# Altium footprint library Discrete.PcbLib: 34 footprints (part 1 of 3)
Each footprint in its own frame and in the unit in brackets; x right, y up, seen from the top. Pads: shape width x height; smd on the part's side, far side on the other; paste and mask are expansions set on the pad; w line width, h text height; cw(c..) or ccw(c..) is an arc to the next point about the centre after c.
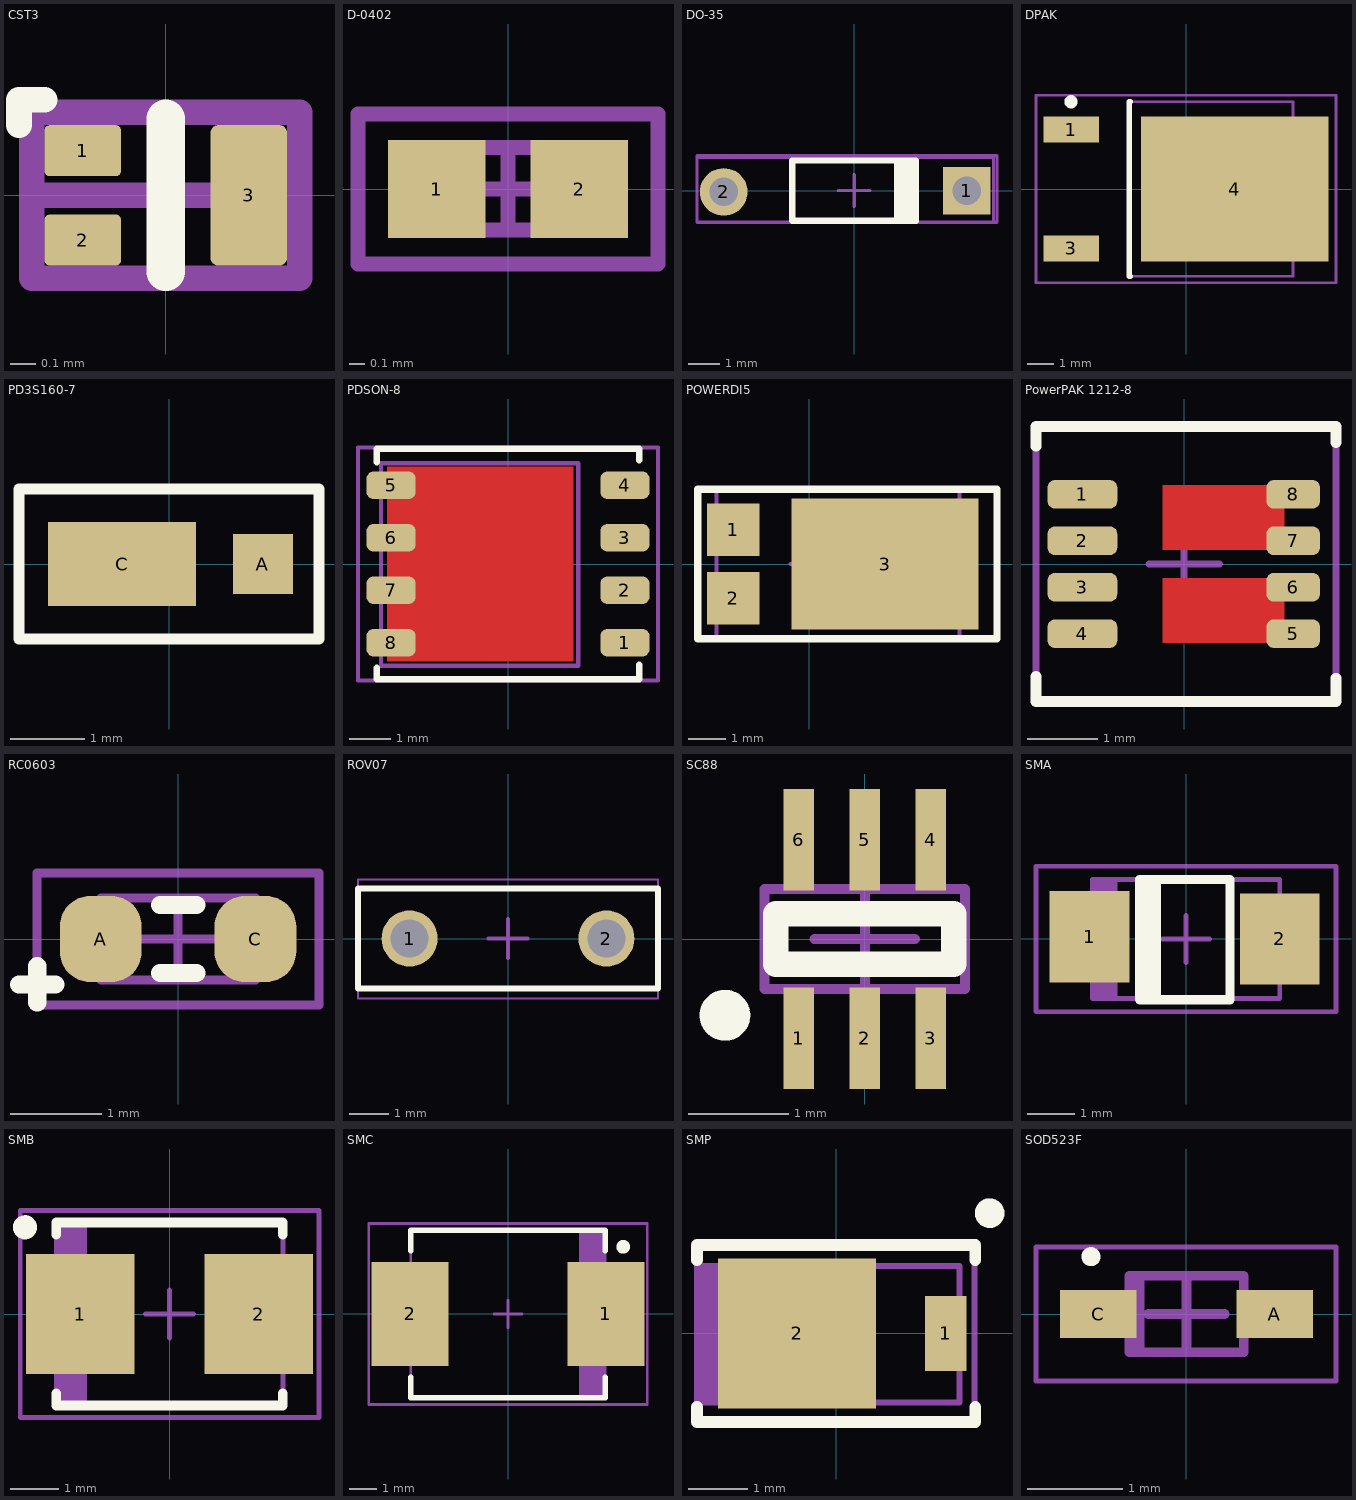
[diagram p0: the footprints below, top view; thin cyan lines are the x and y axes]

## CST3 [mm]
height 0.4
pads (3):
  rrect20% 0.3x0.2 smd mask+0.05: 1(-0.325,0.175) 2(-0.325,-0.175)
  rrect20% 0.3x0.55 smd mask+0.05: 3(0.325,0)
Top Overlay:
  lines w0.1: -0.575,0.275 -0.575,0.375 -0.475,0.375
  lines w0.15: 0,-0.3 0,0.3
Mechanical 13:
  lines w0.1: -0.525,-0.325 -0.525,0.325 0.525,0.325 0.525,-0.325 -0.525,-0.325
  text ".Designator" at -1.74,0.6 h0.5
Mechanical 15:
  lines w0.1: -0.49,0 0.41,0 ; 0,-0.29 0,0.29 ; -0.525,-0.325 -0.525,0.325 0.525,0.325 0.525,-0.325 -0.525,-0.325
3D body: height 0.4, standoff 0, extent -0.525,-0.325 0.525,0.325

## D-0402 [mm] "Chip Diode, 2-Leads, Body 1.0x0.5mm, IPC High Density"
height 0.5
pads (2):
  rect 0.65x0.65 smd: 1(-0.475,0) 2(0.475,0)
Mechanical 13:
  lines w0.1: -0.525,-0.275 0.525,-0.275 0.525,0.275 -0.525,0.275 -0.525,-0.275
  text ".Designator" at -1,0.5 h0.5
Mechanical 15:
  lines w0.1: -0.275,0 0.275,0 ; 0,-0.275 0,0.275 ; -1,-0.5 1,-0.5 1,0.5 -1,0.5 -1,-0.5
3D body: height 0.35, standoff 0, extent -0.525,-0.275 0.525,0.275

## DO-35 [mm] "Diode, Axial; Body 3.8 x 1.9 mm (LxDia. max), Lead Dia. 0.53 mm (max)"
height 1.9
pads (2):
  rect 1.5x1.5 hole 0.9: 1(3.55,0)
  round 1.5 hole 0.9: 2(-4.11,-0.04)
Top Overlay:
  rectangle: 1.25,-0.95 2.05,0.95
  lines w0.2: 1.95,-0.95 -1.95,-0.95 -1.95,0.95 1.95,0.95
Mechanical 13:
  lines w0.1: -4.953,-0.985 -4.953,1.041 4.394,1.041 4.394,-0.985 -4.953,-0.985
  text ".Designator" at -2.286,-0.178 h1.02
Mechanical 15:
  lines w0.1: -0.5,0 0.5,0 ; 0,-0.5 0,0.5 ; -4.953,-1 -4.953,1.1 4.5,1.1 4.5,-1 -4.953,-1
3D body: height 2.46, standoff -2, extent -4.355,-0.985 3.785,0.935

## DPAK [mm] "D-PAK, 3-Pads, Body 6.2x6.6mm (max), IPC Medium Density"
height 2.4
pads (3):
  rect 2.1x1 smd: 1(-4.35,2.25) 3(-4.35,-2.25)
  rect 7.1x5.5 smd: 4(1.85,0)
Top Overlay:
  circle w0.25: c-4.35,3.3 r0.125
  lines w0.2: -2.1,-3.3 -2.15,-3.3 -2.15,3.3 -2.1,3.3
Mechanical 13:
  lines w0.1: -2.15,-3.3 4.05,-3.3 4.05,3.3 -2.15,3.3 -2.15,-3.3
  text ".Designator" at -1.249,1.056 h1.02
Mechanical 15:
  lines w0.1: -0.5,0 0.5,0 ; 0,-0.5 0,0.5 ; -5.675,-3.55 5.675,-3.55 5.675,3.55 -5.675,3.55 -5.675,-3.55
3D body: height 2.3, standoff -0.18, extent -4.964,-3.305 4.734,3.275

## PD3S160-7 [mil] "PD3S160-7"
pads (2):
  rect 32x32 smd: A(50,0)
  rect 79x45 smd: C(-25,0)
Top Overlay:
  lines w6: -80,-40 -80,40 80,40 80,-40 -80,-40

## PDSON-8 [mil]
pads (8):
  rrect50% 47x26 smd: 1(111.5,-75) 2(111.5,-25) 3(111.5,25) 4(111.5,75) 5(-111.5,75) 6(-111.5,25) 7(-111.5,-25) 8(-111.5,-75)
Top Layer:
  region: -115,-92.5 -115,92.5 62,92.5 62,-92.5
Top Overlay:
  lines w6: -125,-99 -125,-110 111,-110 ; -125,97 -125,110 125,110 125,99 ; 109,-110 125,-110 125,-96
Top Paste:
  rectangle: -116,-93 62,93
Top Solder:
  rectangle: -119,-96 66,96
Mechanical 13:
  lines w3.94: -121,-97 -121,96 67,96 67,-97 -121,-97
  text "Designator" at -105,56 h40
Mechanical 15:
  lines w3.94: -19.68,0 19.69,0 ; 0,-19.69 0,19.68 ; -143,-111 143,-111 143,111 -143,111 -143,-111
3D body: height 43.31, standoff 1.97, extent -121,-97 67,96

## POWERDI5 [mm]
height 2.4
pads (3):
  rect 1.4x1.4 smd: 1(-2.03,0.92) 2(-2.03,-0.92)
  rect 5x3.5 smd: 3(2.03,0)
Top Overlay:
  lines w0.2: -2.98,-2 -2.98,2 5.02,2 5.02,-2 -2.98,-2
Mechanical 13:
  lines w0.1: -2.48,-2 4.02,-2 4.02,2 -2.48,2 -2.48,-2
  text ".Designator" at -1.069,1.056 h1.02
Mechanical 15:
  lines w0.1: -0.5,0 0.5,0 ; 0,-0.5 0,0.5 ; -3,-2 5,-2 5,2 -3,2 -3,-2
3D body: height 2.4, standoff 0, extent -2.48,-2 4.02,2

## PowerPAK 1212-8 [mil] "PowerPAK® 1212-8"
pads (8):
  rrect50% 39x16 smd: 1(-57,39) 2(-57,13) 3(-57,-13) 4(-57,-39)
  rrect50% 30x16 smd: 5(61,-39) 6(61,-13) 7(61,13) 8(61,39)
Top Layer:
  region: -12,-44 -12,-8 56,-8 56,-44
  region: -12,8 -12,44 56,44 56,8
Top Overlay:
  lines w6: -83,-63 -83,-77 85,-77 85,-64 ; -83,66 -83,77 85,77 85,68
Top Paste:
  rectangle: -12,8 56,44
  rectangle: -12,-44 56,-8
Top Solder:
  rectangle: -83,-77 85,77
Mechanical 13:
  lines w3.94: -83,-77 -83,77 85,77 85,-77 -83,-77
Mechanical 15:
  lines w3.94: -19.68,0 19.69,0 ; 0,-19.69 0,19.68 ; -83,-77 85,-77 85,77 -83,77 -83,-77
3D body: height 43.31, standoff 1.97, extent -64,-68 67,69

## RC0603 [mm] "Chip Resistor, 2-Leads, Body 1.6x0.8mm, IPC Medium Density"
height 0.55
pads (2):
  rrect75% 0.9x0.95 smd: A(-0.85,0) C(0.85,0)
Top Overlay:
  lines w0.2: -1.75,-0.5 -1.35,-0.5 ; -1.55,-0.7 -1.55,-0.3 ; -0.2,-0.375 0.2,-0.375 ; -0.2,0.375 0.2,0.375
Mechanical 13:
  lines w0.1: -0.85,-0.45 -0.85,0.45 0.85,0.45 0.85,-0.45 -0.85,-0.45
  text ".Designator" at -1.1,0.7 h0.5
Mechanical 15:
  lines w0.1: -0.45,0 0.45,0 ; 0,-0.45 0,0.45 ; -1.55,-0.725 -1.55,0.725 1.55,0.725 1.55,-0.725 -1.55,-0.725
3D body: height 0.55, standoff 0, extent -0.85,-0.45 0.85,0.45

## ROV07 [mil] "ROV07"
pads (2):
  round 56 hole 38: 1(-98.43,0) 2(98.43,0)
Top Overlay:
  lines w6: -150,-50 -150,50 150,50 150,-50 -150,-50
Mechanical 13:
  lines w2: -150,-60 -150,59 150,59 150,-60 -150,-60
  text ".Designator" at -115,-14 h60
Mechanical 15:
  lines w3.94: -19.68,0 19.69,0 ; 0,-19.68 0,19.69 ; -150,-50 150,-50 150,50 -150,50 -150,-50
3D body: height 472.44, standoff 0, extent -150,-60 150,59

## SC88 [mil] "SC88"
pads (6):
  rect 12x40 smd: 1(-26,-39) 2(0,-39) 3(26,-39) 4(26,39) 5(0,39) 6(-26,39)
Top Overlay:
  circle w10: c-55,-30 r5
  lines w10: -35,-10 35,-10 35,10 -35,10 -35,-10
Mechanical 13:
  lines w3.94: -39.37,-19.68 39.37,-19.68 39.37,19.68 -39.37,19.68 -39.37,-19.68
  text ".Designator" at -66.93,25.59 h19.68
Mechanical 15:
  lines w3.94: -19.68,0 19.69,0 ; 0,-19.68 0,19.68 ; -39.37,-19.68 39.37,-19.68 39.37,19.68 -39.37,19.68 -39.37,-19.68
3D body: height 43.31, standoff 1.97, extent -39.37,-19.68 39.37,19.68

## SMA [mm] "Molded Diode, 2-Leads, Body 4.3x2.7mm, IPC Medium Density"
height 2.29
pads (2):
  rect 1.7x1.95 smd: 1(-2.057,0.051) 2(2,0)
Top Overlay:
  lines w0.2: -0.812,-1.295 -0.812,1.27 ; -0.635,-1.295 -0.635,1.27 ; -0.991,-1.295 -0.991,1.27 0.94,1.27 0.94,-1.295 -0.991,-1.295
Mechanical 13:
  rectangle: -2,-1.27 -1.462,1.27
  lines w0.1: -2,-1.27 -2,1.27 2,1.27 2,-1.27 -2,-1.27
  text ".Designator" at -1.949,-0.244 h1.02
Mechanical 15:
  lines w0.1: -0.5,0 0.5,0 ; 0,-0.5 0,0.5 ; -3.2,-1.55 -3.2,1.55 3.2,1.55 3.2,-1.55 -3.2,-1.55
3D body: height 2.29, standoff 0, extent -2,-1.27 2,1.27

## SMB [mm] "SMB, Molded Diode, 2-Leads, Body 4,4x3,5mm, IPC Medium Density"
height 2.4
pads (2):
  rect 2.25x2.5 smd: 1(-1.85,0) 2(1.85,0)
Top Overlay:
  circle w0.25: c-3,1.8 r0.125
  lines w0.2: -2.35,-1.65 -2.35,-1.9 2.35,-1.9 2.35,-1.65 ; -2.35,1.65 -2.35,1.9 2.35,1.9 2.35,1.65
Mechanical 13:
  rectangle: -2.35,-1.9 -1.718,1.9
  lines w0.1: -2.35,-1.9 -2.35,1.9 2.35,1.9 2.35,-1.9 -2.35,-1.9
  text ".Designator" at -2.049,-0.244 h1.02
Mechanical 15:
  lines w0.1: -0.5,0 0.5,0 ; 0,-0.5 0,0.5 ; -3.1,-2.15 -3.1,2.15 3.1,2.15 3.1,-2.15 -3.1,-2.15
3D body: height 2.4, standoff 0, extent -2.35,-1.9 2.35,1.9

## SMC [mm] "Molded Diode, 2-Leads, Body 6.8x5.8mm, IPC Medium Density"
height 2.4
pads (2):
  rect 2.8x3.8 smd: 1(3.57,0) 2(-3.57,0)
Top Overlay:
  circle w0.25: c4.2,2.45 r0.125
  lines w0.2: -3.55,-2.3 -3.55,-3.05 3.55,-3.05 3.55,-2.3 ; -3.55,2.3 -3.55,3.05 3.55,3.05 3.55,2.3
Mechanical 13:
  rectangle: 2.595,-3.05 3.55,3.05
  lines w0.1: -3.55,-3.05 -3.55,3.05 3.55,3.05 3.55,-3.05 -3.55,-3.05
  text ".Designator" at -2.049,-0.144 h1.02
Mechanical 15:
  lines w0.1: -0.5,0 0.5,0 ; 0,-0.5 0,0.5 ; -5.08,-3.3 -5.08,3.3 5.08,3.3 5.08,-3.3 -5.08,-3.3
3D body: height 2.4, standoff 0, extent -3.55,-3.05 3.55,3.05

## SMP [mm]
height 2.4
pads (2):
  rect 0.7x1.27 smd: 1(1.85,0)
  rect 2.67x2.54 smd: 2(-0.66,0)
Top Overlay:
  circle w0.25: c2.593,2.032 r0.125
  lines w0.2: -2.35,-1.244 -2.35,-1.494 2.35,-1.494 2.35,-1.244 ; -2.35,1.244 -2.35,1.494 2.35,1.494 2.35,1.244
Mechanical 13:
  rectangle: -2.35,-1.194 -1.718,1.118
  lines w0.1: -2.35,-1.168 2.083,-1.168 2.083,1.143 -2.35,1.143 -2.35,-1.168
  text "Designator" at -2.049,-0.244 h1.02
Mechanical 15:
  lines w0.1: -0.5,0 0.5,0 ; 0,-0.5 0,0.5 ; -2.337,-1.499 2.337,-1.499 2.337,1.499 -2.337,1.499 -2.337,-1.499
3D body: height 1.15, standoff 0, extent -1.856,-1.171 2.073,1.137

## SOD523F [mm] "Shottky Diode"
height 0.7
pads (2):
  rect 0.8x0.5 smd: A(0.925,0) C(-0.925,0)
Top Overlay:
  circle w0.1: c-1,0.6 r0.05
Mechanical 13:
  rectangle: -0.6,-0.4 -0.439,0.4
  lines w0.1: -0.6,-0.4 -0.6,0.4 0.6,0.4 0.6,-0.4 -0.6,-0.4
Mechanical 15:
  lines w0.05: -1.575,-0.7 -1.575,0.7 1.565,0.7 1.565,-0.7 -1.575,-0.7
  lines w0.1: -0.4,0 0.4,0 ; 0,-0.4 0,0.4
3D body: height 0.7, standoff 0, extent -0.85,-0.45 0.85,0.45